# Altium schematic symbol library power.SchLib: 5 symbols
Pins are listed as number, name and electrical type; pins without a type are passive.

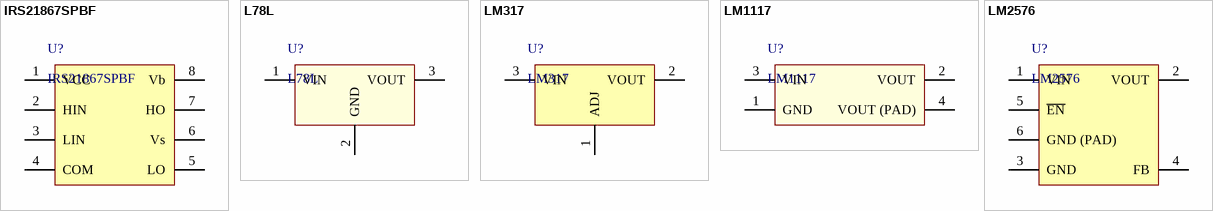
[diagram p0: symbols IRS21867SPBF to LM2576]

## IRS21867SPBF
designator U?
MOSFET driver
footprint SO8_1.27
pins: 1 VCC, 2 HIN, 3 LIN, 4 COM, 5 LO, 6 Vs, 7 HO, 8 Vb

## L78L
designator U?
LDO voltage regulator
footprint SOT89
pins: 1 VIN (power), 2 GND (power), 3 VOUT (power)

## LM317
designator U?
Linear regulator LM317
pins: 1 ADJ, 2 VOUT, 3 VIN

## LM1117
designator U?
LDO voltage regulator
footprint SOT223 (SOT223, 4-Leads, Body 6.50x7.00mm (avg), Pitch 2.30mm, IPC Medium Density)
footprint TO252AA/DPAK (TO252AA/DPAK package); pin to pad 2>3 3>2 4>3
pins: 1 GND (power), 2 VOUT (power), 3 VIN (power), 4 VOUT (PAD) (power)

## LM2576
designator U?
DC-DC step-down switching regulator
pins: 1 VIN, 2 VOUT, 3 GND, 4 FB, 5 ~{EN}, 6 GND (PAD)